# Altium schematic symbol library B4B-PH-K-S(LF)(SN).SchLib: 1 symbol
Pins are listed as number, name and electrical type; pins without a type are passive.

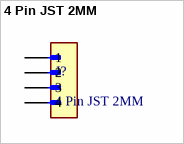
[diagram p0: symbol 4 Pin JST 2MM]

## 4 Pin JST 2MM
designator J?
Connector Header Through Hole 4 position 0.079 (2.00mm) B4B-PH-K-S(LF)(SN); MF: JST Sales; SnapEDA_Link: https://www.snapeda.com/parts/B4B-PH-K-S%20(LF)(SN)/JST/view-part/?ref=snap; Package: None; Value: *; MP: B4B-PH-K-S (LF)(SN); Check_prices: https://www.snapeda.com/parts/B4B-PH-K-S%20(LF)(SN)/JST/view-part/?ref=eda
footprint JST_B4B-PH-K-S(LF)(SN)
pins: 1, 2, 3, 4